# Altium footprint library FEV-60_PcbLib.PcbLib: 19 footprints (part 2 of 2)
Each footprint in its own frame and in the unit in brackets; x right, y up, seen from the top. Pads: shape width x height; smd on the part's side, far side on the other; paste and mask are expansions set on the pad; w line width, h text height; cw(c..) or ccw(c..) is an arc to the next point about the centre after c.
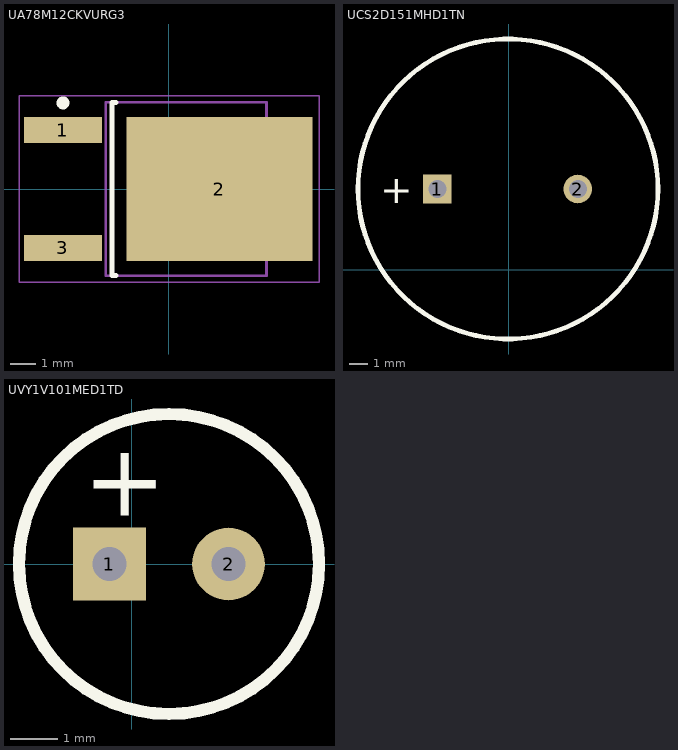
[diagram p1: the footprints below, top view; thin cyan lines are the x and y axes]

## UA78M12CKVURG3 [mm] "12V LDO, 3-Pads, Body 6.21x6.71mm (max), IPC Medium Density"
height 2.52
pads (3):
  rect 3x1 smd: 1(-4.1,2.28) 3(-4.1,-2.28)
  rect 7.2x5.55 smd: 2(1.95,0)
Top Overlay:
  circle w0.25: c-4.1,3.33 r0.125
  lines w0.2: -2.05,-3.35 -2.2,-3.35 -2.2,3.35 -2.05,3.35
Mechanical 13:
  lines w0.1: -2.45,-3.35 -2.45,3.35 3.77,3.35 3.77,-3.35 -2.45,-3.35
Mechanical 15:
  lines w0.05: -5.8,-3.6 -5.8,3.6 5.8,3.6 5.8,-3.6 -5.8,-3.6
  lines w0.1: -0.5,0 0.5,0 ; 0,-0.5 0,0.5
3D body "UA78M12CKVURG3.step": height 2.52, standoff 0, extent -4.53,-3.35 5.37,3.35

## UCS2D151MHD1TN [mil] "Radial Cap 50% Protection"
pads (2):
  rect 60x60 hole 38: 1(-150,170)
  round 60 hole 38: 2(145,170)
Top Overlay:
  circle w10: c-1.57,170 r314.96
  text "+" at -270,140 h60

## UVY1V101MED1TD [mil] "Radial Cap from Nichicon"
pads (2):
  rect 60x60 hole 28: 1(-18.43,0)
  round 60 hole 28: 2(80,0)
Top Overlay:
  circle w10: c30.79,0 r124.02
  text "+" at -40,40 h60